# Altium integrated library Linx Technologies Connector.IntLib: 53 symbols
Pins are listed as number, name and electrical type; pins without a type are passive.

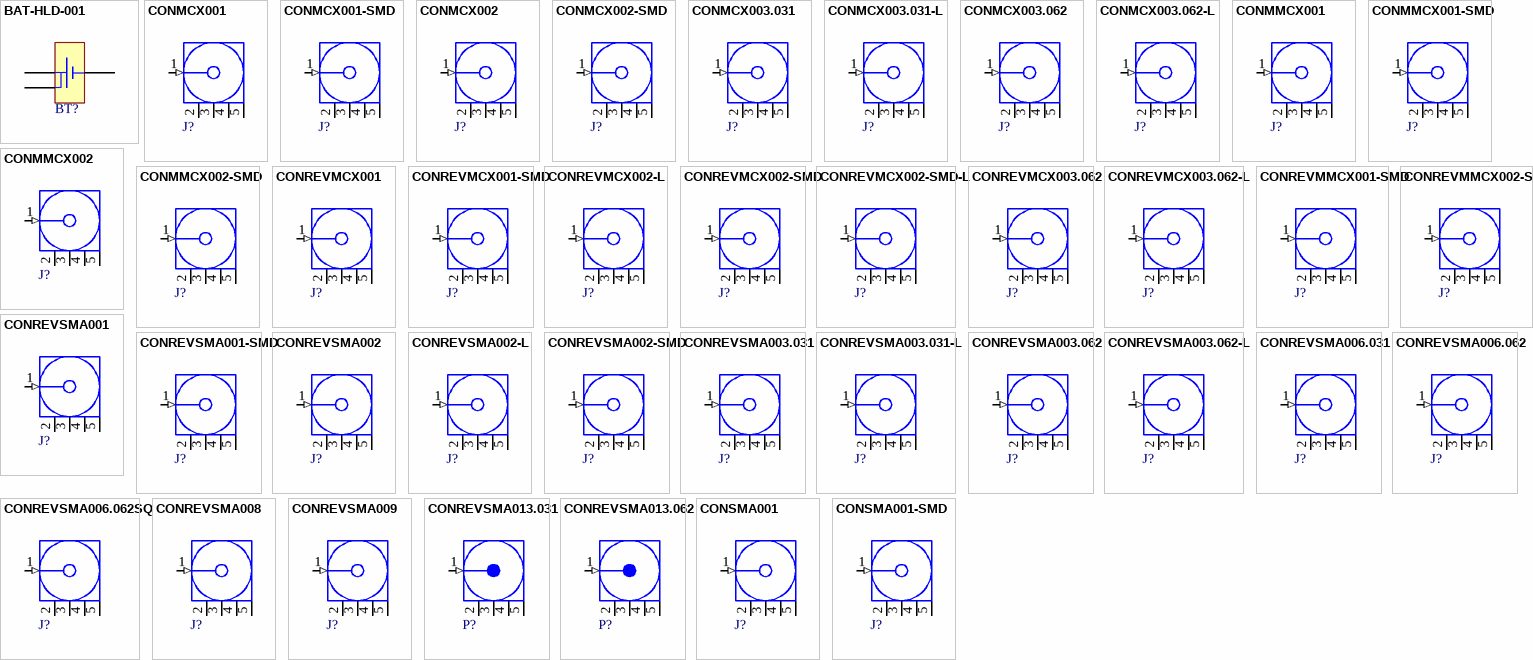
[diagram p0: symbols BAT-HLD-001 to CONSMA001-SMD]

## BAT-HLD-001
designator BT?
20mm Coin Cell Battery Holder; PCB_Layout: Complies with manufacturer's recommendation.; DatasheetVersion: rev1.0, Dec-2007; PackageVersion: rev1.0, Dec-2007; PackageReference: BATHLD-001; PackageDescription: Low Profile SM Battery Holder, 20mm Lithium Cell, 21.1 x 15.3 x 4.2 mm Body; ComponentLink1Description: Manufacturer URL; ComponentLink1URL: http://www.linxtechnologies.com/; ComponentLink2Description: Datasheet; ComponentLink2URL: http://www.connectorcity.com/diagrams/Battery-Holder/BAT-HLD-001.pdf
footprint BATHLD-001 (Battery Holder, SM, 20mm Coin Cell, Body 21.1x15.3x4.2mm)
pins: 1 -, 2 +, 3 +

## CONMCX001
designator J?
MCX Female PCB Mount Connector, Thru-Hole; PCB_Layout: Pads complies with manufacturer's recommendation.; DatasheetVersion: rev1.0, Jun-2006; PackageVersion: rev1.0, Jun-2006; PackageReference: CON-MCX; PackageDescription: MCX Female PCB Mount Connector, Thru-Hole, 6 x 6 mm Body; ComponentLink1Description: Manufacturer URL; ComponentLink1URL: http://www.linxtechnologies.com/; ComponentLink2Description: Datasheet; ComponentLink2URL: http://www.connectorcity.com/diagrams/MCX/CONMCX001.pdf
footprint CON-MCX (Connector, MCX Female, 5-Lead, Thru-Hole, Straight, Body 6x6mm)
pins: 1 Signal (in) "Signal Pin", 2 GND (power), 3 GND (power), 4 GND (power), 5 GND (power)

## CONMCX001-SMD
designator J?
MCX Female Surface Mount Connector; DatasheetVersion: rev1.0, Jun-2006; PackageVersion: rev1.0, Jun-2006; PackageReference: CON-MCX-SMD; PackageDescription: MCX Female PCB Surface Mount Connector, 6 x 6 mm Body; ComponentLink1Description: Manufacturer URL; ComponentLink1URL: http://www.linxtechnologies.com/; ComponentLink2Description: Datasheet; ComponentLink2URL: http://www.connectorcity.com/diagrams/MCX/CONMCX001-SMD.pdf
footprint CON-MCX-SMD (Connector, MCX Female, 5-Lead, SM, Straight, Body 6x6mm)
pins: 1 Signal (in) "Signal Pin", 2 GND (power), 3 GND (power), 4 GND (power), 5 GND (power)

## CONMCX002
designator J?
MCX Female Right Angle PCB Mount Connector, Thru-Hole; PCB_Layout: Pads complies with manufacturer's recommendation.; DatasheetVersion: rev1.0, Jun-2006; PackageVersion: rev1.0, Jun-2006; PackageReference: CON-MCX-RA; PackageDescription: MCX Female Right Angle PCB Mount Connector, Thru-Hole, 6 x 6 mm Body; ComponentLink1Description: Manufacturer URL; ComponentLink1URL: http://www.linxtechnologies.com/; ComponentLink2Description: Datasheet; ComponentLink2URL: http://www.connectorcity.com/diagrams/MCX/CONMCX002.pdf
footprint CON-MCX-RA (Connector, MCX Female, 5-Lead, Thru-Hole, Right-Angle, Body 6x6mm)
pins: 1 Signal (in) "Signal Pin", 2 GND (power), 3 GND (power), 4 GND (power), 5 GND (power)

## CONMCX002-SMD
designator J?
MCX Female Right Angle Surface Mount Connector; DatasheetVersion: rev1.0, Jun-2006; PackageVersion: rev1.0, Jun-2006; PackageReference: CON-MCX-SMD-RA; PackageDescription: MCX Female Right Angle PCB Surface Mount Connector, 6 x 6 mm Body; ComponentLink1Description: Manufacturer URL; ComponentLink1URL: http://www.linxtechnologies.com/; ComponentLink2Description: Datasheet; ComponentLink2URL: http://www.connectorcity.com/diagrams/MCX/CONMCX002-SMD.pdf
footprint CON-MCX-SMD-RA (Connector, MCX Female, 5-Lead, SM, Right-Angle, Body 6x6mm)
pins: 1 Signal (in) "Signal Pin", 2 GND (power), 3 GND (power), 4 GND (power), 5 GND (power)

## CONMCX003.031
designator J?
MCX Female Edge Mount Connector for 0.031" Thick Boards; PCB_Layout: Pads complies with manufacturer's recommendation.; DatasheetVersion: revB, Nov-2009; PackageVersion: revB, Nov-2009; PackageReference: CON-MCX-EDGE031; PackageDescription: MCX Female Edge Mount Connector for 0.031" Thick Board, 6.4 x 6.4 mm Body; ComponentLink1Description: Manufacturer URL; ComponentLink1URL: http://www.linxtechnologies.com/; ComponentLink2Description: Datasheet; ComponentLink2URL: http://www.connectorcity.com/diagrams/MCX/CONMCX003.031.pdf
footprint CON-MCX-EDGE031 (Connector, MCX Female Edge Mount for 0.031" Thick Board, 5-Lead, SM, Body 6.4x6.4mm)
pins: 1 Signal (in) "Signal Pin", 2 GND (power), 3 GND (power), 4 GND (power), 5 GND (power)

## CONMCX003.031-L
designator J?
MCX Female Edge Mount Connector for 0.031" Thick Boards - Extended; PCB_Layout: Pads complies with manufacturer's recommendation.; DatasheetVersion: revB, Dec-2009; PackageVersion: revB, Dec-2009; PackageReference: CON-MCX-EDGE031L; PackageDescription: MCX Female Edge Mount Connector for 0.031" Thick Board, Extended, 6.35 x 6.35 mm Body; ComponentLink1Description: Manufacturer URL; ComponentLink1URL: http://www.linxtechnologies.com/; ComponentLink2Description: Datasheet; ComponentLink2URL: http://www.connectorcity.com/diagrams/MCX/CONMCX003.031-L.pdf
footprint CON-MCX-EDGE031L (Connector, MCX Female Edge Mount for 0.031" Thick Board, Extended, 5-Lead, SM, Body 6.35x6.35mm)
pins: 1 Signal (in) "Signal Pin", 2 GND (power), 3 GND (power), 4 GND (power), 5 GND (power)

## CONMCX003.062
designator J?
MCX Female Edge Mount Connector for 0.062" Thick Boards; PCB_Layout: Pads complies with manufacturer's recommendation.; DatasheetVersion: rev1.0, May-2007; PackageVersion: rev1.0, May-2007; PackageReference: CON-MCX-EDGE062; PackageDescription: MCX Female Edge Mount Connector for 0.062" Thick Board, 6.4 x 6.4 mm Body; ComponentLink1Description: Manufacturer URL; ComponentLink1URL: http://www.linxtechnologies.com/; ComponentLink2Description: Datasheet; ComponentLink2URL: http://www.connectorcity.com/diagrams/MCX/CONMCX003.062.pdf
footprint CON-MCX-EDGE062 (Connector, MCX Female Edge Mount for 0.062" Thick Board, 5-Lead, SM, Body 6.4x6.4mm)
pins: 1 Signal (in) "Signal Pin", 2 GND (power), 3 GND (power), 4 GND (power), 5 GND (power)

## CONMCX003.062-L
designator J?
MCX Female Edge Mount Connector for 0.062" Thick Boards - Extended; PCB_Layout: Pads complies with manufacturer's recommendation.; DatasheetVersion: rev1.0, Jun-2007; PackageVersion: rev1.0, Jun-2007; PackageReference: CON-MCX-EDGE062L; PackageDescription: MCX Female Edge Mount Connector for 0.062" Thick Board, Extended, 6.35 x 6.35 mm Body; ComponentLink1Description: Manufacturer URL; ComponentLink1URL: http://www.linxtechnologies.com/; ComponentLink2Description: Datasheet; ComponentLink2URL: http://www.connectorcity.com/diagrams/MCX/CONMCX003.062-L.pdf
footprint CON-MCX-EDGE062L (Connector, MCX Female Edge Mount for 0.062" Thick Board, Extended, 5-Lead, SM, Body 6.35x6.35mm)
pins: 1 Signal (in) "Signal Pin", 2 GND (power), 3 GND (power), 4 GND (power), 5 GND (power)

## CONMMCX001
designator J?
MMCX Female PCB Mount Connector, Thru-Hole; PCB_Layout: Pads complies with manufacturer's recommendation.; DatasheetVersion: rev1.0, Jun-2006; PackageVersion: rev1.0, Jun-2006; PackageReference: CON-MMCX; PackageDescription: MMCX Female PCB Mount Connector, Thru-Hole, 3.5 x 3.5 mm Body; ComponentLink1Description: Manufacturer URL; ComponentLink1URL: http://www.linxtechnologies.com/; ComponentLink2Description: Datasheet; ComponentLink2URL: http://www.connectorcity.com/diagrams/MMCX/CONMMCX001.pdf
footprint CON-MMCX (Connector, MMCX Female, 5-Lead, Thru-Hole, Straight, Body 3.5x3.5mm)
pins: 1 Signal (in) "Signal Pin", 2 GND (power), 3 GND (power), 4 GND (power), 5 GND (power)

## CONMMCX001-SMD
designator J?
MMCX Female Surface Mount Connector; PCB_Layout: Pads complies with manufacturer's recommendation.; DatasheetVersion: revB, Jan-2010; PackageVersion: revB, Jan-2010; PackageReference: CON-MMCX-SMD; PackageDescription: MMCX Female Surface Mount Connector, 3.5 x 3.5 mm Body; ComponentLink1Description: Manufacturer URL; ComponentLink1URL: http://www.linxtechnologies.com/; ComponentLink2Description: Datasheet; ComponentLink2URL: http://www.connectorcity.com/diagrams/MMCX/CONMMCX001-SMD.pdf
footprint CON-MMCX-SMD (Connector, MMCX Female, 5-Lead, SM, Straight, Body 3.5x3.5mm)
pins: 1 Signal (in) "Signal Pin", 2 GND (power), 3 GND (power), 4 GND (power), 5 GND (power)

## CONMMCX002
designator J?
MMCX Female Right Angle PCB Mount Connector, Thru-Hole; PCB_Layout: Pads complies with manufacturer's recommendation.; DatasheetVersion: rev1.0, Jun-2007; PackageVersion: rev1.0, Jun-2007; PackageReference: CON-MMCX-RA; PackageDescription: MMCX Female Right Angle PCB Mount Connector, Thru-Hole, 3.45 x 3.45 mm Body; ComponentLink1Description: Manufacturer URL; ComponentLink1URL: http://www.linxtechnologies.com/; ComponentLink2Description: Datasheet; ComponentLink2URL: http://www.connectorcity.com/diagrams/MMCX/CONMMCX002.pdf
footprint CON-MMCX-RA (Connector, MMCX Female, 5-Lead, Thru-Hole, Right-Angle, Body 3.45x3.45mm)
pins: 1 Signal (in) "Signal Pin", 2 GND (power), 3 GND (power), 4 GND (power), 5 GND (power)

## CONMMCX002-SMD
designator J?
MMCX Female Right Angle Surface Mount Connector; PCB_Layout: Pads complies with manufacturer's recommendation.; DatasheetVersion: revB, Jan-2010; PackageVersion: revB, Jan-2010; PackageReference: CON-MMCX-SMD-RA; PackageDescription: MMCX Female Right Angle Surface Mount Connector, 3.5 x 3.5 mm Body; ComponentLink1Description: Manufacturer URL; ComponentLink1URL: http://www.linxtechnologies.com/; ComponentLink2Description: Datasheet; ComponentLink2URL: http://www.connectorcity.com/diagrams/MMCX/CONMMCX002-SMD.pdf
footprint CON-MMCX-SMD-RA (Connector, MMCX Female, 5-Lead, SM, Right-Angle, Body 3.5x3.5mm)
pins: 1 Signal (in) "Signal Pin", 2 GND (power), 3 GND (power), 4 GND (power), 5 GND (power)

## CONREVMCX001
designator J?
RP-MCX Female PCB Mount Connector; PCB_Layout: Pads complies with manufacturer's recommendation.; DatasheetVersion: rev1.0, Jun-2006; PackageVersion: rev1.0, Jun-2006; PackageReference: CON-REVMCX; PackageDescription: RP-MCX Female PCB Mount Connector, Thru-Hole, 6 x 6 mm Body; ComponentLink1Description: Manufacturer URL; ComponentLink1URL: http://www.linxtechnologies.com/; ComponentLink2Description: Datasheet; ComponentLink2URL: http://www.connectorcity.com/diagrams/RP-MCX/CONREVMCX001.pdf
footprint CON-REVMCX (Connector, RP-MCX Female, 5-Lead, Thru-Hole, Straight, Body 6x6mm)
pins: 1 Signal (in) "Signal Pin", 2 GND (power), 3 GND (power), 4 GND (power), 5 GND (power)

## CONREVMCX001-SMD
designator J?
RP-MCX Female Surface Mount Connector; DatasheetVersion: rev1.0, Jun-2006; PackageVersion: rev1.0, Jun-2006; PackageReference: CON-MCX-SMD; PackageDescription: RP-MCX Female PCB Surface Mount Connector, 6 x 6 mm Body; ComponentLink1Description: Manufacturer URL; ComponentLink1URL: http://www.linxtechnologies.com/; ComponentLink2Description: Datasheet; ComponentLink2URL: http://www.connectorcity.com/diagrams/RP-MCX/CONREVMCX001-SMD.pdf
footprint CON-MCX-SMD (Connector, MCX Female, 5-Lead, SM, Straight, Body 6x6mm)
pins: 1 Signal (in) "Signal Pin", 2 GND (power), 3 GND (power), 4 GND (power), 5 GND (power)

## CONREVMCX002-L
designator J?
RP-MCX Female Right Angle PCB Mount Connector - Extended; PCB_Layout: Pads complies with manufacturer's recommendation.; DatasheetVersion: rev1.0, Jun-2007; PackageVersion: rev1.0, Jun-2007; PackageReference: CON-REVMCX-RA; PackageDescription: RP-MCX Female Right Angle PCB Mount Connector, Thru-Hole, 6 x 6 mm Body; ComponentLink1Description: Manufacturer URL; ComponentLink1URL: http://www.linxtechnologies.com/; ComponentLink2Description: Datasheet; ComponentLink2URL: http://www.connectorcity.com/diagrams/RP-MCX/CONREVMCX002-L.pdf
footprint CON-REVMCX-RA (Connector, RP-MCX Female, 5-Lead, Thru-Hole, Right-Angle, Body 6x6mm)
pins: 1 Signal (in) "Signal Pin", 2 GND (power), 3 GND (power), 4 GND (power), 5 GND (power)

## CONREVMCX002-SMD
designator J?
RP-MCX Female Right Angle Surface Mount Connector; DatasheetVersion: rev1.0, May-2007; PackageVersion: rev1.0, May-2007; PackageReference: CON-MCX-SMD-RA; PackageDescription: MCX Female Right Angle PCB Surface Mount Connector, 6 x 6 mm Body; ComponentLink1Description: Manufacturer URL; ComponentLink1URL: http://www.linxtechnologies.com/; ComponentLink2Description: Datasheet; ComponentLink2URL: http://www.connectorcity.com/diagrams/RP-MCX/CONREVMCX002-SMD.pdf
footprint CON-MCX-SMD-RA (Connector, MCX Female, 5-Lead, SM, Right-Angle, Body 6x6mm)
pins: 1 Signal (in) "Signal Pin", 2 GND (power), 3 GND (power), 4 GND (power), 5 GND (power)

## CONREVMCX002-SMD-L
designator J?
RP-MCX Female Right Angle Surface Mount Connector - Extended; DatasheetVersion: rev1.0, May-2007; PackageVersion: rev1.0, May-2007; PackageReference: CON-MCX-SMD-RA; PackageDescription: MCX Female Right Angle PCB Surface Mount Connector, 6 x 6 mm Body; ComponentLink1Description: Manufacturer URL; ComponentLink1URL: http://www.linxtechnologies.com/; ComponentLink2Description: Datasheet; ComponentLink2URL: http://www.connectorcity.com/diagrams/RP-MCX/CONREVMCX002-SMD-L.pdf
footprint CON-MCX-SMD-RA (Connector, MCX Female, 5-Lead, SM, Right-Angle, Body 6x6mm)
pins: 1 Signal (in) "Signal Pin", 2 GND (power), 3 GND (power), 4 GND (power), 5 GND (power)

## CONREVMCX003.062
designator J?
RP-MCX Female Edge Mount Connector for 0.062" Thick Boards; PCB_Layout: Pads complies with manufacturer's recommendation.; DatasheetVersion: rev1.0, Jun-2007; PackageVersion: rev1.0, Jun-2007; PackageReference: CON-MCX-EDGE062; PackageDescription: MCX Female Edge Mount Connector for 0.062" Thick Board, Reverse-polarity, 6.4 x 6.4 mm Body; ComponentLink1Description: Manufacturer URL; ComponentLink1URL: http://www.linxtechnologies.com/; ComponentLink2Description: Datasheet; ComponentLink2URL: http://www.connectorcity.com/diagrams/RP-MCX/CONREVMCX003.062.pdf
footprint CON-MCX-EDGE062 (Connector, RP-MCX Female Edge Mount for 0.062" Thick Board, 5-Lead, SM, Body 6.4x6.4mm)
pins: 1 Signal (in) "Signal Pin", 2 GND (power), 3 GND (power), 4 GND (power), 5 GND (power)

## CONREVMCX003.062-L
designator J?
RP-MCX Female Edge Mount Connector for 0.062" Thick Boards - Extended; PCB_Layout: Pads complies with manufacturer's recommendation.; DatasheetVersion: rev1.0, Jun-2007; PackageVersion: rev1.0, Jun-2007; PackageReference: CON-MCX-EDGE062L; PackageDescription: MCX Female Edge Mount Connector for 0.062" Thick Board, Reverse-polarity, Extended, 6.35 x 6.35 mm Body; ComponentLink1Description: Manufacturer URL; ComponentLink1URL: http://www.linxtechnologies.com/; ComponentLink2Description: Datasheet; ComponentLink2URL: http://www.connectorcity.com/diagrams/RP-MCX/CONREVMCX003.062-L.pdf
footprint CON-MCX-EDGE062L (Connector, RP-MCX Female Edge Mount for 0.062" Thick Board, Extended, 5-Lead, SM, Body 6.35x6.35mm)
pins: 1 Signal (in) "Signal Pin", 2 GND (power), 3 GND (power), 4 GND (power), 5 GND (power)

## CONREVMMCX001-SMD
designator J?
RP-MMCX Female Surface Mount Connector; PCB_Layout: Pads complies with manufacturer's recommendation.; DatasheetVersion: revA, Jan-2010; PackageVersion: revA, Jan-2010; PackageReference: CON-MMCX-SMD; PackageDescription: MMCX-RP Female Surface Mount Connector, 3.5 x 3.5 mm Body; ComponentLink1Description: Manufacturer URL; ComponentLink1URL: http://www.linxtechnologies.com/; ComponentLink2Description: Datasheet; ComponentLink2URL: http://www.connectorcity.com/diagrams/RP-MMCX/CONREVMMCX001-SMD.pdf
footprint CON-MMCX-SMD (Connector, MMCX Female, 5-Lead, SM, Straight, Body 3.5x3.5mm)
pins: 1 Signal (in) "Signal Pin", 2 GND (power), 3 GND (power), 4 GND (power), 5 GND (power)

## CONREVMMCX002-SMD
designator J?
RP-MMCX Female Right Angle Surface Mount Connector; PCB_Layout: Pads complies with manufacturer's recommendation.; DatasheetVersion: revA, Jan-2010; PackageVersion: revA, Jan-2010; PackageReference: CON-MMCX-SMD-RA; PackageDescription: MMCX-RP Female Right Angle Surface Mount Connector, 3.5 x 3.5 mm Body; ComponentLink1Description: Manufacturer URL; ComponentLink1URL: http://www.linxtechnologies.com/; ComponentLink2Description: Datasheet; ComponentLink2URL: http://www.connectorcity.com/diagrams/RP-MMCX/CONREVMMCX002-SMD.pdf
footprint CON-MMCX-SMD-RA (Connector, MMCX Female, 5-Lead, SM, Right-Angle, Body 3.5x3.5mm)
pins: 1 Signal (in) "Signal Pin", 2 GND (power), 3 GND (power), 4 GND (power), 5 GND (power)

## CONREVSMA001
designator J?
RP-SMA Female PCB Mount Connector, Thru-Hole; DatasheetVersion: rev1.0, Mar-2005; PackageVersion: rev1.0, Mar-2005; PackageReference: CON-REVSMA; PackageDescription: RP-SMA Female PCB Mount Connector, Thru-Hole, 7 x 7 mm Body; ComponentLink1Description: Manufacturer URL; ComponentLink1URL: http://www.linxtechnologies.com/; ComponentLink2Description: Datasheet; ComponentLink2URL: http://www.connectorcity.com/diagrams/RP-SMA/CONREVSMA001.pdf
footprint CON-REVSMA (Connector, RP-SMA Female, 5-Lead, Thru-Hole, Straight, Body 7x7mm)
pins: 1 Signal (in) "Signal Pin", 2 GND (power), 3 GND (power), 4 GND (power), 5 GND (power)

## CONREVSMA001-SMD
designator J?
RP-SMA Female Surface Mount Connector; DatasheetVersion: rev1, May-2006; PackageVersion: rev1, May-2006; PackageReference: CON-REVSMA-SMD; PackageDescription: RP-SMA Female PCB Mount, Surface Mount Connector, 7 x 7 mm Body; ComponentLink1Description: Manufacturer URL; ComponentLink1URL: http://www.linxtechnologies.com/; ComponentLink2Description: Datasheet; ComponentLink2URL: http://www.connectorcity.com/diagrams/RP-SMA/CONREVSMA001-SMD.pdf
footprint CON-REVSMA-SMD (Connector, RP-SMA Female, 5-Lead, SM, Straight, Body 7x7mm)
pins: 1 Signal (in) "Signal Pin", 2 GND (power), 3 GND (power), 4 GND (power), 5 GND (power)

## CONREVSMA002
designator J?
RP-SMA Female Right Angle PCB Mount Connector, Thru-Hole; DatasheetVersion: rev1.0, Mar-2005; PackageVersion: rev1.0, Mar-2005; PackageReference: CON-REVSMA-RA; PackageDescription: RP-SMA Female Right Angle, PCB Mount Connector, Thru-Hole, 7 x 7 mm Body; ComponentLink1Description: Manufacturer URL; ComponentLink1URL: http://www.linxtechnologies.com/; ComponentLink2Description: Datasheet; ComponentLink2URL: http://www.connectorcity.com/diagrams/RP-SMA/CONREVSMA002.pdf
footprint CON-REVSMA-RA (Connector, RP-SMA Female, 5-Lead, Thru-Hole, Right-Angle, Body 7x7mm)
pins: 1 Signal (in) "Signal Pin", 2 GND (power), 3 GND (power), 4 GND (power), 5 GND (power)

## CONREVSMA002-L
designator J?
RP-SMA Female Right Angle PCB Mount Connector - Extended, Thru-Hole; DatasheetVersion: revC, Aug-2009; PackageVersion: revC, Aug-2009; PackageReference: CON-REVSMA-RA; PackageDescription: RP-SMA Female Right Angle, PCB Mount Connector, Extended, Thru-Hole, 7 x 7 mm Body; ComponentLink1Description: Manufacturer URL; ComponentLink1URL: http://www.linxtechnologies.com/; ComponentLink2Description: Datasheet; ComponentLink2URL: http://www.connectorcity.com/diagrams/RP-SMA/CONREVSMA002-L.pdf
footprint CON-REVSMA-RA (Connector, RP-SMA Female, 5-Lead, Thru-Hole, Right-Angle, Body 7x7mm)
pins: 1 Signal (in) "Signal Pin", 2 GND (power), 3 GND (power), 4 GND (power), 5 GND (power)

## CONREVSMA002-SMD
designator J?
RP-SMA Female Right Angle Surface Mount Connector; DatasheetVersion: revA, Aug-2010; PackageVersion: revA, Aug-2010; PackageReference: CON-REVSMA-SMD-RA; PackageDescription: RP-SMA Female Right Angle, Surface Mount Connector, 7 x 7 mm Body; ComponentLink1Description: Manufacturer URL; ComponentLink1URL: http://www.linxtechnologies.com/; ComponentLink2Description: Datasheet; ComponentLink2URL: http://www.connectorcity.com/diagrams/RP-SMA/CONREVSMA002-SMD.pdf
footprint CON-REVSMA-SMD-RA (Connector, RP-SMA Female, 5-Lead, SM, Right-Angle, Body 7x7mm)
pins: 1 Signal (in) "Signal Pin", 2 GND (power), 3 GND (power), 4 GND (power), 5 GND (power)

## CONREVSMA003.031
designator J?
RP-SMA Female Edge Mount Connector for 0.031" Thick Board; PCB_Layout: Pads complies with manufacturer's recommendation.; DatasheetVersion: rev1.0, Jun-2006; PackageVersion: rev1.0, Jun-2006; PackageReference: CON-SMA-EDGE031; PackageDescription: SMA Female Edge Mount for Connector 0.031" Thick Board, Reverse-polarity, 7.9 mm Body Dia.; ComponentLink1Description: Manufacturer URL; ComponentLink1URL: http://www.linxtechnologies.com/; ComponentLink2Description: Datasheet; ComponentLink2URL: http://www.connectorcity.com/diagrams/RP-SMA/CONREVSMA003.031.pdf
footprint CON-SMA-EDGE031 (Connector, SMA Female Edge Mount for 0.031" Thick Board, 5-Lead, Body Dia. 7.9mm)
pins: 1 Signal (in) "Signal Pin", 2 GND (power), 3 GND (power), 4 GND (power), 5 GND (power)

## CONREVSMA003.031-L
designator J?
RP-SMA Female Edge Mount Connector for 0.031" Thick Board - Extended; PCB_Layout: Pads complies with manufacturer's recommendation.; DatasheetVersion: rev1.0, Jun-2006; PackageVersion: rev1.0, Jun-2006; PackageReference: CON-SMA-EDGE031L; PackageDescription: SMA Female Edge Mount for Connector 0.031" Thick Board, Extended, Reverse-polarity, 9.5 x 7.9 mm Body; ComponentLink1Description: Manufacturer URL; ComponentLink1URL: http://www.linxtechnologies.com/; ComponentLink2Description: Datasheet; ComponentLink2URL: http://www.connectorcity.com/diagrams/RP-SMA/CONREVSMA003.031-L.pdf
footprint CON-SMA-EDGE031L (Connector, SMA Female Edge Mount for 0.031" Thick Board, Extended, 5-Lead, Body 9.5x7.9mm)
pins: 1 Signal (in) "Signal Pin", 2 GND (power), 3 GND (power), 4 GND (power), 5 GND (power)

## CONREVSMA003.062
designator J?
RP-SMA Female Edge Mount Connector for 0.062" Thick Board; PCB_Layout: Pads complies with manufacturer's recommendation.; DatasheetVersion: rev1.0, Jun-2006; PackageVersion: rev1.0, Jun-2006; PackageReference: CON-SMA-EDGE062; PackageDescription: SMA Female Edge Mount for Connector 0.062" Thick Board, Reverse-polarity, 7.9 mm Body Dia.; ComponentLink1Description: Manufacturer URL; ComponentLink1URL: http://www.linxtechnologies.com/; ComponentLink2Description: Datasheet; ComponentLink2URL: http://www.connectorcity.com/diagrams/RP-SMA/CONREVSMA003.062.pdf
footprint CON-SMA-EDGE062 (Connector, SMA Female Edge Mount for 0.062" Thick Board, 5-Lead, Body Dia. 7.9mm)
pins: 1 Signal (in) "Signal Pin", 2 GND (power), 3 GND (power), 4 GND (power), 5 GND (power)

## CONREVSMA003.062-L
designator J?
RP-SMA Female Edge Mount Connector for 0.062" Thick Board - Extended; PCB_Layout: Pads complies with manufacturer's recommendation.; DatasheetVersion: rev1.0, Jun-2006; PackageVersion: rev1.0, Jun-2006; PackageReference: CON-SMA-EDGE062L; PackageDescription: SMA Female Edge Mount for Connector 0.062" Thick Board, Extended, Reverse-polarity, 9.5 x 7.9 mm Body; ComponentLink1Description: Manufacturer URL; ComponentLink1URL: http://www.linxtechnologies.com/; ComponentLink2Description: Datasheet; ComponentLink2URL: http://www.connectorcity.com/diagrams/RP-SMA/CONREVSMA003.062-L.pdf
footprint CON-SMA-EDGE062L (Connector, RP-SMA Female Edge Mount for 0.062" Thick Board, Extended, 5-Lead, Body 9.5x7.9mm)
pins: 1 Signal (in) "Signal Pin", 2 GND (power), 3 GND (power), 4 GND (power), 5 GND (power)

## CONREVSMA006.031
designator J?
RP-SMA Female Edge Multi-Mount Connector for 0.031" Thick Board; PCB_Layout: Pads complies with manufacturer's recommendation.; DatasheetVersion: rev1.0, Mar-2005; PackageVersion: rev1.0, Mar-2005; PackageReference: CON-SMA-MM031; PackageDescription: SMA Female Edge Multi-Mount for Connector 0.031" Thick Board, Reverse-polarity, 7.9 mm Body Dia.; ComponentLink1Description: Manufacturer URL; ComponentLink1URL: http://www.linxtechnologies.com/; ComponentLink2Description: Datasheet; ComponentLink2URL: http://www.connectorcity.com/diagrams/RP-SMA/CONREVSMA006.031.pdf
footprint CON-SMA-MM031 (Connector, SMA Female Edge Multi-Mount for 0.031" Thick Board, 5-Lead, Body Dia. 7.9mm)
pins: 1 Signal (in) "Signal Pin", 2 GND (power), 3 GND (power), 4 GND (power), 5 GND (power)

## CONREVSMA006.062
designator J?
RP-SMA Female Edge Multi-Mount Connector for 0.062" Thick Board; PCB_Layout: Pads complies with manufacturer's recommendation.; DatasheetVersion: rev1.0, Mar-2005; PackageVersion: rev1.0, Mar-2005; PackageReference: CON-SMA-MM062; PackageDescription: SMA Female Edge Multi-Mount for Connector 0.062" Thick Board, Reverse-polarity, 7.9 mm Body Dia.; ComponentLink1Description: Manufacturer URL; ComponentLink1URL: http://www.linxtechnologies.com/; ComponentLink2Description: Datasheet; ComponentLink2URL: http://www.connectorcity.com/diagrams/RP-SMA/CONREVSMA006.062.pdf
footprint CON-SMA-MM062 (Connector, SMA Female Edge Multi-Mount for 0.062" Thick Board, 5-Lead, Body Dia. 7.9mm)
pins: 1 Signal (in) "Signal Pin", 2 GND (power), 3 GND (power), 4 GND (power), 5 GND (power)

## CONREVSMA006.062SQ
designator J?
RP-SMA Female Edge Multi-Mount Connector with Square Flange for 0.062" Thick Board; PCB_Layout: Pads complies with manufacturer's recommendation.; DatasheetVersion: rev1.0, Mar-2005; PackageVersion: rev1.0, Mar-2005; PackageReference: CON-SMA-MM062SQ; PackageDescription: SMA Female Edge Multi-Mount with Square Flange for Connector 0.062" Thick Board, Reverse-polarity, 8.3 x 8.3 mm Body; ComponentLink1Description: Manufacturer URL; ComponentLink1URL: http://www.linxtechnologies.com/; ComponentLink2Description: Datasheet; ComponentLink2URL: http://www.connectorcity.com/diagrams/RP-SMA/CONREVSMA006.062SQ.pdf
footprint CON-SMA-MM062SQ (Connector, RP-SMA Female Edge Multi-Mount for 0.062" Thick Board, Sq. Flange, 5-Lead, Body 8.3x8.3mm)
pins: 1 Signal (in) "Signal Pin", 2 GND (power), 3 GND (power), 4 GND (power), 5 GND (power)

## CONREVSMA008
designator J?
RP-SMA Female PCB Mount Connector - Extended, Thru-Hole; DatasheetVersion: revB, Feb-2010; PackageVersion: revB, Feb-2010; PackageReference: CON-SMA-L; PackageDescription: RP-SMA Female PCB Mount Connector, Extended, Thru-Hole, 7 x 7 mm Body; ComponentLink1Description: Manufacturer URL; ComponentLink1URL: http://www.linxtechnologies.com/; ComponentLink2Description: Datasheet; ComponentLink2URL: http://www.connectorcity.com/diagrams/RP-SMA/CONREVSMA008.pdf
footprint CON-SMA-L (Connector, SMA Female, Extended, 5-Lead, Thru-Hole, Straight, Body 7x7mm)
pins: 1 Signal (in) "Signal Pin", 2 GND (power), 3 GND (power), 4 GND (power), 5 GND (power)

## CONREVSMA009
designator J?
RP-SMA Female Right Angle Edge Multi-Mount Connector for 0.062" Thick Boards; PCB_Layout: Pads complies with manufacturer's recommendation.; DatasheetVersion: rev1.0, Mar-2005; PackageVersion: rev1.0, Mar-2005; PackageReference: CON-SMA-EDGE; PackageDescription: RP-SMA Female Right Angle Edge Multi-Mount for 0.062" Thick Boards; ComponentLink1Description: Manufacturer URL; ComponentLink1URL: http://www.linxtechnologies.com/; ComponentLink2Description: Datasheet; ComponentLink2URL: http://www.connectorcity.com/diagrams/RP-SMA/CONREVSMA009.pdf
footprint CON-SMA-EDGE (Connector, SMA Female Mount, 5-Lead, SM, Right-Angle)
pins: 1 Signal (in) "Signal Pin", 2 GND (power), 3 GND (power), 4 GND (power), 5 GND (power)

## CONREVSMA013.031
designator P?
RP-SMA Male Edge Mount Connector for 0.031" Thick Boards; PCB_Layout: Pads complies with manufacturer's recommendation.; DatasheetVersion: revB, Jul-2009; PackageVersion: revB, Jul-2009; PackageReference: CON-REVSMA-EDGE; PackageDescription: RP-SMA Male Edge Mount Connector for 0.031" Thick Board, 6.35 x 6.35 mm Body; ComponentLink1Description: Manufacturer URL; ComponentLink1URL: http://www.linxtechnologies.com/; ComponentLink2Description: Datasheet; ComponentLink2URL: http://www.connectorcity.com/diagrams/RP-SMA/CONREVSMA013.031.pdf
footprint CON-REVSMA-EDGE (Connector, SMA Male Edge Mount, 5-Lead, SM, Right-Angle)
pins: 1 Signal (in) "Signal Pin", 2 GND (power), 3 GND (power), 4 GND (power), 5 GND (power)

## CONREVSMA013.062
designator P?
RP-SMA Male Edge Mount Connector for 0.062" Thick Boards; PCB_Layout: Pads complies with manufacturer's recommendation.; DatasheetVersion: revB, Jul-2009; PackageVersion: revB, Jul-2009; PackageReference: CON-REVSMA-EDGE; PackageDescription: RP-SMA Male Edge Mount Connector for 0.062" Thick Board, 6.35 x 6.35 mm Body; ComponentLink1Description: Manufacturer URL; ComponentLink1URL: http://www.linxtechnologies.com/; ComponentLink2Description: Datasheet; ComponentLink2URL: http://www.connectorcity.com/diagrams/RP-SMA/CONREVSMA013.062.pdf
footprint CON-REVSMA-EDGE (Connector, SMA Male Edge Mount, 5-Lead, SM, Right-Angle)
pins: 1 Signal (in) "Signal Pin", 2 GND (power), 3 GND (power), 4 GND (power), 5 GND (power)

## CONSMA001
designator J?
Female PCB Mount Connector, Thru-Hole; DatasheetVersion: rev1.1, Jan-2008; PackageVersion: rev1.1, Jan-2008; PackageReference: CON-SMA; PackageDescription: SMA Female PCB Mount Connector, Thru-Hole, 7 x 7 mm Body; ComponentLink1Description: Manufacturer URL; ComponentLink1URL: http://www.linxtechnologies.com/; ComponentLink2Description: Datasheet; ComponentLink2URL: http://www.connectorcity.com/diagrams/SMA/CONSMA001.pdf
footprint CON-SMA (Connector, SMA Female, 5-Lead, Thru-Hole, Straight, Body 7x7mm)
pins: 1 Signal (in) "Signal Pin", 2 GND (power), 3 GND (power), 4 GND (power), 5 GND (power)

## CONSMA001-SMD
designator J?
SMA Female Surface Mount Connector, Gold Finish; DatasheetVersion: revB, Sep-2009; PackageVersion: revB, Sep-2009; PackageReference: CON-SMA-SMD; PackageDescription: SMA Female PCB Mount, Surface Mount Connector, 7 x 7 mm Body; ComponentLink1Description: Manufacturer URL; ComponentLink1URL: http://www.linxtechnologies.com/; ComponentLink2Description: Datasheet; ComponentLink2URL: http://www.connectorcity.com/diagrams/SMA/CONSMA001-SMD.pdf
footprint CON-SMA-SMD (Connector, SMA Female, 5-Lead, SM, Straight, Body 7x7mm)
pins: 1 Signal (in) "Signal Pin", 2 GND (power), 3 GND (power), 4 GND (power), 5 GND (power)

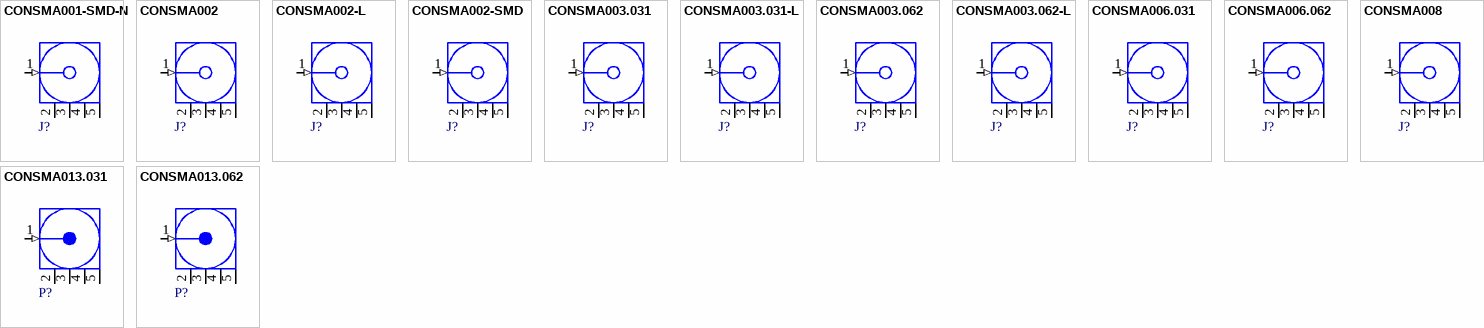
[diagram p1: symbols CONSMA001-SMD-N to CONSMA013.062]

## CONSMA001-SMD-N
designator J?
SMA Female Surface Mount Connector, Nickel Finish; DatasheetVersion: revB, Sep-2009; PackageVersion: revB, Sep-2009; PackageReference: CON-SMA-SMD; PackageDescription: SMA Female PCB Mount, Surface Mount Connector, 7 x 7 mm Body; ComponentLink1Description: Manufacturer URL; ComponentLink1URL: http://www.linxtechnologies.com/; ComponentLink2Description: Datasheet; ComponentLink2URL: http://www.connectorcity.com/diagrams/SMA/CONSMA001-SMD.pdf
footprint CON-SMA-SMD (Connector, SMA Female, 5-Lead, SM, Straight, Body 7x7mm)
pins: 1 Signal (in) "Signal Pin", 2 GND (power), 3 GND (power), 4 GND (power), 5 GND (power)

## CONSMA002
designator J?
SMA Female Right Angle PCB Mount Connector; DatasheetVersion: rev1.2, Aug-2008; PackageVersion: rev1.2, Aug-2008; PackageReference: CON-SMA-RA; PackageDescription: SMA Female Right Angle, PCB Mount Connector, Thru-Hole, 7 x 7 mm Body; ComponentLink1Description: Manufacturer URL; ComponentLink1URL: http://www.linxtechnologies.com/; ComponentLink2Description: Datasheet; ComponentLink2URL: http://www.connectorcity.com/diagrams/SMA/CONSMA002.pdf
footprint CON-SMA-RA (Connector, SMA Female, 5-Lead, Thru-Hole, Right-Angle, Body 7x7mm)
pins: 1 Signal (in) "Signal Pin", 2 GND (power), 3 GND (power), 4 GND (power), 5 GND (power)

## CONSMA002-L
designator J?
SMA Female Right Angle PCB Mount Connector - Extended; DatasheetVersion: rev1.1, Jul-2008; PackageVersion: rev1.1, Jul-2008; PackageReference: CON-SMA-RA; PackageDescription: SMA Female Right Angle, PCB Mount Connector, Extended, Thru-Hole, 7 x 7 mm Body; ComponentLink1Description: Manufacturer URL; ComponentLink1URL: http://www.linxtechnologies.com/; ComponentLink2Description: Datasheet; ComponentLink2URL: http://www.connectorcity.com/diagrams/SMA/CONSMA002-L.pdf
footprint CON-SMA-RA (Connector, SMA Female, 5-Lead, Thru-Hole, Right-Angle, Body 7x7mm)
pins: 1 Signal (in) "Signal Pin", 2 GND (power), 3 GND (power), 4 GND (power), 5 GND (power)

## CONSMA002-SMD
designator J?
SMA Female Right Angle Surface Mount Connector; DatasheetVersion: revB, Oct-2010; PackageVersion: revB, Oct-2010; PackageReference: CON-SMA-SMD-RA; PackageDescription: SMA Female Right Angle, Surface Mount Connector, 7 x 7 mm Body; ComponentLink1Description: Manufacturer URL; ComponentLink1URL: http://www.linxtechnologies.com/; ComponentLink2Description: Datasheet; ComponentLink2URL: http://www.connectorcity.com/diagrams/SMA/CONSMA002-SMD.pdf
footprint CON-SMA-SMD-RA (Connector, SMA Female, 5-Lead, SM, Right-Angle, Body 7x7mm)
pins: 1 Signal (in) "Signal Pin", 2 GND (power), 3 GND (power), 4 GND (power), 5 GND (power)

## CONSMA003.031
designator J?
SMA Female Edge Mount Connector for 0.031" Thick Board; PCB_Layout: Pads complies with manufacturer's recommendation.; DatasheetVersion: rev1.0, Jul-2006; PackageVersion: rev1.0, Jul-2006; PackageReference: CON-SMA-EDGE031; PackageDescription: SMA Female Edge Mount Connector for 0.031" Thick Board, 7.9 mm Body Dia.; ComponentLink1Description: Manufacturer URL; ComponentLink1URL: http://www.linxtechnologies.com/; ComponentLink2Description: Datasheet; ComponentLink2URL: http://www.connectorcity.com/diagrams/SMA/CONSMA003.031.pdf
footprint CON-SMA-EDGE031 (Connector, SMA Female Edge Mount for 0.031" Thick Board, 5-Lead, Body Dia. 7.9mm)
pins: 1 Signal (in) "Signal Pin", 2 GND (power), 3 GND (power), 4 GND (power), 5 GND (power)

## CONSMA003.031-L
designator J?
SMA Female Edge Mount Connector for 0.031" Thick Board - Extended; PCB_Layout: Pads complies with manufacturer's recommendation.; DatasheetVersion: rev1.0, Jan-2007; PackageVersion: rev1.0, Jan-2007; PackageReference: CON-SMA-EDGE031L; PackageDescription: SMA Female Edge Mount for Connector 0.031" Thick Board, Extended, 9.5 x 7.9 mm Body; ComponentLink1Description: Manufacturer URL; ComponentLink1URL: http://www.linxtechnologies.com/; ComponentLink2Description: Datasheet; ComponentLink2URL: http://www.connectorcity.com/diagrams/SMA/CONSMA003.031-L.pdf
footprint CON-SMA-EDGE031L (Connector, SMA Female Edge Mount for 0.031" Thick Board, Extended, 5-Lead, Body 9.5x7.9mm)
pins: 1 Signal (in) "Signal Pin", 2 GND (power), 3 GND (power), 4 GND (power), 5 GND (power)

## CONSMA003.062
designator J?
SMA Female Edge Mount Connector for 0.062" Thick Board; PCB_Layout: Pads complies with manufacturer's recommendation.; DatasheetVersion: rev1.0, Aug-2006; PackageVersion: rev1.0, Aug-2006; PackageReference: CON-SMA-EDGE062; PackageDescription: SMA Female Edge Mount Connector for 0.062" Thick Board, 7.9 mm Body Dia.; ComponentLink1Description: Manufacturer URL; ComponentLink1URL: http://www.linxtechnologies.com/; ComponentLink2Description: Datasheet; ComponentLink2URL: http://www.connectorcity.com/diagrams/SMA/CONSMA003.062.pdf
footprint CON-SMA-EDGE062 (Connector, SMA Female Edge Mount for 0.062" Thick Board, 5-Lead, Body Dia. 7.9mm)
pins: 1 Signal (in) "Signal Pin", 2 GND (power), 3 GND (power), 4 GND (power), 5 GND (power)

## CONSMA003.062-L
designator J?
SMA Female Edge Mount Connector for 0.062" Thick Board - Extended; PCB_Layout: Pads complies with manufacturer's recommendation.; DatasheetVersion: rev1.0, May-2007; PackageVersion: rev1.0, May-2007; PackageReference: CON-SMA-EDGE062L; PackageDescription: SMA Female Edge Mount for Connector 0.062" Thick Board, Extended, 9.5 x 7.9 mm Body; ComponentLink1Description: Manufacturer URL; ComponentLink1URL: http://www.linxtechnologies.com/; ComponentLink2Description: Datasheet; ComponentLink2URL: http://www.connectorcity.com/diagrams/SMA/CONSMA003.062-L.pdf
footprint CON-SMA-EDGE062L (Connector, SMA Female Edge Mount for 0.062" Thick Board, Extended, 5-Lead, Body 9.5x7.9mm)
pins: 1 Signal (in) "Signal Pin", 2 GND (power), 3 GND (power), 4 GND (power), 5 GND (power)

## CONSMA006.031
designator J?
SMA Female Edge Multi-Mount Connector for 0.031" Thick Board; PCB_Layout: Pads complies with manufacturer's recommendation.; DatasheetVersion: rev1.0, Mar-2007; PackageVersion: rev1.0, Mar-2007; PackageReference: CON-SMA-MM031; PackageDescription: SMA Female Edge Multi-Mount for Connector 0.031" Thick Board, 7.9 mm Body Dia.; ComponentLink1Description: Manufacturer URL; ComponentLink1URL: http://www.linxtechnologies.com/; ComponentLink2Description: Datasheet; ComponentLink2URL: http://www.connectorcity.com/diagrams/SMA/CONSMA006.031.pdf
footprint CON-SMA-MM031 (Connector, SMA Female Edge Multi-Mount for 0.031" Thick Board, 5-Lead, Body Dia. 7.9mm)
pins: 1 Signal (in) "Signal Pin", 2 GND (power), 3 GND (power), 4 GND (power), 5 GND (power)

## CONSMA006.062
designator J?
SMA Female Edge Multi-Mount Connector for 0.062" Thick Board; PCB_Layout: Pads complies with manufacturer's recommendation.; DatasheetVersion: rev1.0, May-2007; PackageVersion: rev1.0, May-2007; PackageReference: CON-SMA-MM062; PackageDescription: SMA Female Edge Multi-Mount for Connector 0.062" Thick Board, 7.9 mm Body Dia.; ComponentLink1Description: Manufacturer URL; ComponentLink1URL: http://www.linxtechnologies.com/; ComponentLink2Description: Datasheet; ComponentLink2URL: http://www.connectorcity.com/diagrams/SMA/CONSMA006.062.pdf
footprint CON-SMA-MM062 (Connector, SMA Female Edge Multi-Mount for 0.062" Thick Board, 5-Lead, Body Dia. 7.9mm)
pins: 1 Signal (in) "Signal Pin", 2 GND (power), 3 GND (power), 4 GND (power), 5 GND (power)

## CONSMA008
designator J?
SMA Female PCB Mount Connector - Extended; DatasheetVersion: revB, Feb-2010; PackageVersion: revB, Feb-2010; PackageReference: CON-SMA-L; PackageDescription: SMA Female PCB Mount Connector, Extended, Thru-Hole, 7 x 7 mm Body; ComponentLink1Description: Manufacturer URL; ComponentLink1URL: http://www.linxtechnologies.com/; ComponentLink2Description: Datasheet; ComponentLink2URL: http://www.connectorcity.com/diagrams/SMA/CONSMA008.pdf
footprint CON-SMA-L (Connector, SMA Female, Extended, 5-Lead, Thru-Hole, Straight, Body 7x7mm)
pins: 1 Signal (in) "Signal Pin", 2 GND (power), 3 GND (power), 4 GND (power), 5 GND (power)

## CONSMA013.031
designator P?
SMA Male Edge Mount Connector for 0.031" Thick Boards; PCB_Layout: Pads complies with manufacturer's recommendation.; DatasheetVersion: revB, Jul-2009; PackageVersion: revB, Jul-2009; PackageReference: CON-REVSMA-EDGE; PackageDescription: SMA Male Edge Mount Connector for 0.031" Thick Board, 6.35 x 6.35 mm Body; ComponentLink1Description: Manufacturer URL; ComponentLink1URL: http://www.linxtechnologies.com/; ComponentLink2Description: Datasheet; ComponentLink2URL: http://www.connectorcity.com/diagrams/SMA/CONSMA013.031.pdf
footprint CON-REVSMA-EDGE (Connector, SMA Male Edge Mount, 5-Lead, SM, Right-Angle)
pins: 1 Signal (in) "Signal Pin", 2 GND (power), 3 GND (power), 4 GND (power), 5 GND (power)

## CONSMA013.062
designator P?
SMA Male Edge Mount Connector for 0.062" Thick Boards; PCB_Layout: Pads complies with manufacturer's recommendation.; DatasheetVersion: revB, Jul-2009; PackageVersion: revB, Jul-2009; PackageReference: CON-REVSMA-EDGE; PackageDescription: SMA Male Edge Mount Connector for 0.062" Thick Board, 6.35 x 6.35 mm Body; ComponentLink1Description: Manufacturer URL; ComponentLink1URL: http://www.linxtechnologies.com/; ComponentLink2Description: Datasheet; ComponentLink2URL: http://www.connectorcity.com/diagrams/SMA/CONSMA013.062.pdf
footprint CON-REVSMA-EDGE (Connector, SMA Male Edge Mount, 5-Lead, SM, Right-Angle)
pins: 1 Signal (in) "Signal Pin", 2 GND (power), 3 GND (power), 4 GND (power), 5 GND (power)